# Altium schematic symbol library EReference-Schematic.SchLib: 84 symbols (part 2 of 3)
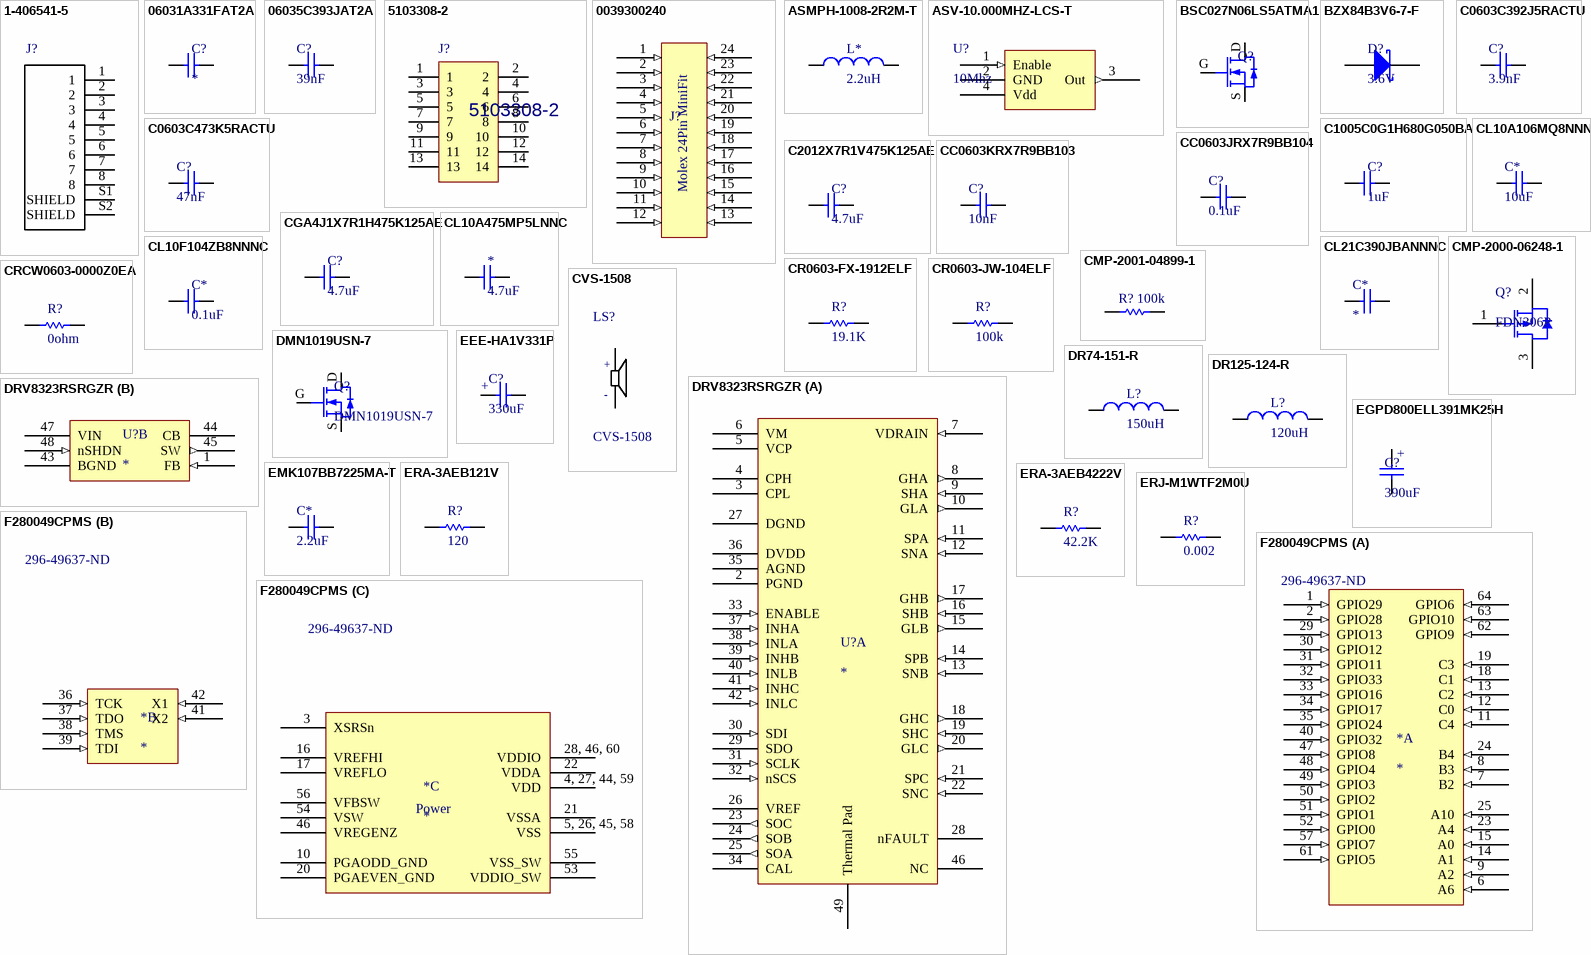
[diagram p3: symbols 1-406541-5 to F280049CPMS]

## EEE-HA1V331P
designator C?, comment 330uF
Cap Aluminum 330uF 35V 20% (10 X 10.2mm) SMD 250mA 2000h 105 C T/R; Manufacturer 1: Panasonic; Manufacturer Part Number 1: EEE-HA1V331P; Life (Hours): 1000Hour; Leakage Current: 115.5uA; Lead Diameter: 0.9mm; Supplier 1: Digi-Key; Stock 1: 52575; Pricing 1: 1=0.63000, 10=0.46300, 100=0.31770 (USD); RoHS: Yes; Mount: Surface Mount,PCB; Case/Package: Radial; Contact Plating: Tin; Min Operating Temperature: -40°C; Max Operating Temperature: 105°C; Capacitance: 330uF; Tolerance: 20%; Ripple Current: 250mA; Packaging: Tape and Reel; Package Quantity: 1; Voltage Rating: 35V; Voltage Rating (DC): 35V; Termination: SMD/SMT; Ripple Current (AC): 250mA; Voltage: 35V; Diameter: 10mm; Length: 10.5mm; Height: 10.2mm; Height - Seated (Max): 0.402inch; Width: 900um; Lead Pitch: 4.6mm; Radiation Hardening: No; Lead Free: Lead Free; REACH SVHC: No SVHC; ComponentLink1URL: https://datasheet.ciiva.com/11777/0900766b8102e3f9-11777478.pdf?src-supplier=RSComponents; ComponentLink1Description: https://datasheet.ciiva.com/11777/0900766b8102e3f9-11777478.pdf?src-supplier=RSComponents; ComponentLink2URL: https://datasheet.ciiva.com/2985/aba0000ce3-2985744.pdf?src-supplier=Avnet; ComponentLink2Description: https://datasheet.ciiva.com/2985/aba0000ce3-2985744.pdf?src-supplier=Avnet; ComponentLink3URL: https://datasheet.ciiva.com/3774/41677684s7619538n1386-3774069.pdf?src-supplier=Arrow; ComponentLink3Description: https://datasheet.ciiva.com/3774/41677684s7619538n1386-3774069.pdf?src-supplier=Arrow; ComponentLink4URL: https://datasheet.ciiva.com/14600/70256712-14600664.pdf?src-supplier=Allied+Electronics; ComponentLink4Description: https://datasheet.ciiva.com/14600/70256712-14600664.pdf?src-supplier=Allied+Electronics; ComponentLink5URL: https://datasheet.ciiva.com/46386/1446029-46386024.pdf?src-supplier=Element14; ComponentLink5Description: https://datasheet.ciiva.com/46386/1446029-46386024.pdf?src-supplier=Element14; ComponentLink6URL: https://datasheet.ciiva.com/43459/1446029-43459854.pdf?src-supplier=Farnell; ComponentLink6Description: https://datasheet.ciiva.com/43459/1446029-43459854.pdf?src-supplier=Farnell
footprint CAPAE116100X105N (Aluminum Electrolytic Capacitor, Body 10.00x10.00x10.50mm, IPC Medium Density)
pins: 1, 2
text: +

## EGPD800ELL391MK25H
designator C?, comment 390uF
CAP ALUM 390UF 20% 80V RADIAL; Manufacturer 1: United Chemi-Con; Manufacturer Part Number 1: EGPD800ELL391MK25H; ESR (Equivalent Series Resistance): 52mR; Ripple Current: 2.05A; Life (Hours): 3000Hour; Lead/Base Style: Straight; Supplier 1: Digi-Key; Stock 1: 4261; Pricing 1: 1=1.62000, 10=1.28300, 100=0.96200, 500=0.72684, 1000=0.64133, 2500=0.59857, 5000=0.58147 (USD); RoHS: Yes; Mount: Through Hole; Case/Package: Radial; Min Operating Temperature: -40°C; Max Operating Temperature: 135°C; Capacitance: 390uF; Package Quantity: 1000; Packaging: Bulk; Voltage Rating: 80V; Tolerance: 20%; Termination: Radial; Voltage Rating (DC): 80V; Diameter: 12.5mm; Length: 25mm; Height: 12.5mm; Lead Pitch: 0.197inch; Height - Seated (Max): 1.043inch; Width: 12.5mm; ComponentLink1URL: https://datasheet.ciiva.com/31836/76cat-db-al-cgieejppdfnamegpd-cgieejppdfnamegpd-31836902.pdf?src-supplier=Onlinecomponents.com; ComponentLink1Description: https://datasheet.ciiva.com/31836/76cat-db-al-cgieejppdfnamegpd-cgieejppdfnamegpd-31836902.pdf?src-supplier=Onlinecomponents.com
simulation model Model Name (Model Description)
footprint EGPD800ELL391MK25H
pins: 1, 2
text: +

## EMK107BB7225MA-T
designator C*, comment 2.2uF
CAP CER 2.2UF 16V X7R 0603; Manufacturer 1: Taiyo Yuden; Manufacturer Part Number 1: EMK107BB7225MA-T; Tolerance: 20%; Supplier 1: Digi-Key; Stock 1: 26291; Pricing 1: 1=0.34000, 10=0.23300, 100=0.13210, 500=0.09322, 1000=0.08157 (USD); RoHS: No; Mount: Surface Mount; Case/Package: 0603; Case Code (Imperial): 0603; Case Code (Metric): 1608; Min Operating Temperature: -55°C; Max Operating Temperature: 125°C; Packaging: Tape and Reel; Capacitance: 2.2uF; Voltage Rating: 16V; ComponentLink1URL: http://ds.yuden.co.jp/TYCOMPAS/ut/detail.do?productNo=EMK107BB7225MA-T&fileName=EMK107BB7225MA-T_SS&mode=specSheetDownload&src-supplier=Digi-Key; ComponentLink1Description: http://ds.yuden.co.jp/TYCOMPAS/ut/detail.do?productNo=EMK107BB7225MA-T&fileName=EMK107BB7225MA-T_SS&mode=specSheetDownload&src-supplier=Digi-Key; ComponentLink2URL: http://www.yuden.co.jp/productdata/catalog/mlcc06_e.pdf?src-supplier=Digi-Key; ComponentLink2Description: http://www.yuden.co.jp/productdata/catalog/mlcc06_e.pdf?src-supplier=Digi-Key
footprint CAPC1608X05L (Chip Capacitor, 2-Leads, Body 1.60x0.80mm, IPC High Density)
pins: 1, 2

## ERA-3AEB121V
designator R?, comment 120
RESISTOR, 0603, 120R, FULL REEL; Manufacturer: Panasonic; Manufacturer Part Number: ERA-3AEB121V; Tolerance: 0.1%; Temperature Coefficient: 25ppm/°C; Power Rating: 100mW; Voltage Rating: 75V; Supplier 1: Mouser; Stock 1: 7786; Pricing 1: 1=0.58, 10=0.231, 50=0.231, 100=0.15, 1000=0.077, 10000=0.04 (USD); Mount: Surface Mount; Case/Package: 0603; Number of Pins: 2; Contact Plating: Tin; Case Code (Metric): 1608; Case Code (Imperial): 0603; Min Operating Temperature: -55°C; Max Operating Temperature: 155°C; Resistance: 120R; Composition: Thin Film; Packaging: Tape and Reel; Package Quantity: 1; Number of Terminations: 2; Termination: SMD/SMT; Military Standard: Not; Max Power Dissipation: 100mW; Voltage Rating (DC): 75V; Features: Automotive AEC-Q200; Length: 1.6mm; Height: 0.45mm; Width: 0.8mm; Depth: 0.8mm; Radiation Hardening: No; REACH SVHC: No SVHC; Lead Free: Lead Free; ComponentLink1URL: http://www.farnell.com/datasheets/1776116.pdf; ComponentLink1Description: http://www.farnell.com/datasheets/1776116.pdf; ComponentLink2URL: https://www.distrelec.biz/Web/Downloads/_t/ds/ERA_eng_tds.pdf?mime=application%2Fpdf; ComponentLink2Description: https://www.distrelec.biz/Web/Downloads/_t/ds/ERA_eng_tds.pdf?mime=application%2Fpdf; ComponentLink3URL: http://www.farnell.com/datasheets/485442.pdf; ComponentLink3Description: http://www.farnell.com/datasheets/485442.pdf; ComponentLink4URL: http://www.farnell.com/datasheets/2052875.pdf; ComponentLink4Description: http://www.farnell.com/datasheets/2052875.pdf; ComponentLink5URL: http://www.farnell.com/datasheets/2059650.pdf; ComponentLink5Description: http://www.farnell.com/datasheets/2059650.pdf; ComponentLink6URL: http://industrial.panasonic.com/www-data/pdf/AOA0000/AOA0000CE26.pdf; ComponentLink6Description: http://industrial.panasonic.com/www-data/pdf/AOA0000/AOA0000CE26.pdf; ComponentLink7URL: http://uk.rs-online.com/webdocs/0fe2/0900766b80fe20f7.pdf; ComponentLink7Description: http://uk.rs-online.com/webdocs/0fe2/0900766b80fe20f7.pdf; ComponentLink8URL: https://produktinfo.conrad.com/datenblaetter/450000-474999/450380-da-01-en-WIDERSTAND_0603_ERA.pdf; ComponentLink8Description: https://produktinfo.conrad.com/datenblaetter/450000-474999/450380-da-01-en-WIDERSTAND_0603_ERA.pdf
footprint CAPC1608X05L (Chip Capacitor, 2-Leads, Body 1.60x0.80mm, IPC High Density)
simulation model Model Name (Model Description)
signal-integrity model Model Name (Model Description)
pins: 1, 2

## ERA-3AEB4222V
designator R?, comment 42.2K
Res Thin Film 0603 42.2K Ohm 0.1% 1/10W 25ppm/C Molded SMD SMD Punched Carrier T/R; Manufacturer 1: Panasonic; Manufacturer Part Number 1: ERA-3AEB4222V; Resistance: 42.2kR; Temperature Coefficient: 25ppm/°C; Voltage Rating: 75V; Power Rating: 100mW; Supplier 1: Digi-Key; Stock 1: 34459; Pricing 1: 1=0.35000, 10=0.30000, 100=0.11720, 1000=0.04906, 2500=0.04498 (USD); RoHS: Yes; Mount: Surface Mount; Case/Package: 0603; Number of Pins: 2; Contact Plating: Tin; Case Code (Metric): 1608; Case Code (Imperial): 0603; Min Operating Temperature: -55°C; Max Operating Temperature: 155°C; Tolerance: 0.1%; Composition: Thin Film,Metal Film; Packaging: Tape and Reel; Package Quantity: 5000; Number of Terminations: 2; Max Power Dissipation: 100mW; Voltage Rating (DC): 75V; Features: Automotive AEC-Q200; Length: 1.6mm; Height: 0.45mm; Width: 0.8mm; Depth: 0.8mm; Radiation Hardening: No; Lead Free: Lead Free; ComponentLink1URL: https://datasheet.ciiva.com/11810/0900766b80eb1d8c-11810162.pdf?src-supplier=RSComponents; ComponentLink1Description: https://datasheet.ciiva.com/11810/0900766b80eb1d8c-11810162.pdf?src-supplier=RSComponents; ComponentLink2URL: https://datasheet.ciiva.com/29184/452555-da-01-en-widerstand-0603-era-29184024.pdf?src-supplier=Conrad; ComponentLink2Description: https://datasheet.ciiva.com/29184/452555-da-01-en-widerstand-0603-era-29184024.pdf?src-supplier=Conrad; ComponentLink3URL: https://datasheet.ciiva.com/5987/485442-5987221.pdf?src-supplier=Farnell; ComponentLink3Description: https://datasheet.ciiva.com/5987/485442-5987221.pdf?src-supplier=Farnell; ComponentLink4URL: https://datasheet.ciiva.com/7870/485442-7870590.pdf?src-supplier=Element14; ComponentLink4Description: https://datasheet.ciiva.com/7870/485442-7870590.pdf?src-supplier=Element14; ComponentLink5URL: https://datasheet.ciiva.com/7870/485442-7870591.pdf?src-supplier=Element14; ComponentLink5Description: https://datasheet.ciiva.com/7870/485442-7870591.pdf?src-supplier=Element14; ComponentLink6URL: https://datasheet.ciiva.com/9189/aoa0000ce26-9189711.pdf?src-supplier=Avnet; ComponentLink6Description: https://datasheet.ciiva.com/9189/aoa0000ce26-9189711.pdf?src-supplier=Avnet
footprint CAPC1608X05L (Chip Capacitor, 2-Leads, Body 1.60x0.80mm, IPC High Density)
pins: 1, 2

## ERJ-M1WTF2M0U
designator R?, comment 0.002
RESISTOR, 2512, 0R002, 1%, 1W; Manufacturer: Panasonic; Manufacturer Part Number: ERJ-M1WTF2M0U; Resistance: 2mR; Temperature Coefficient: 100ppm/°C; Supplier 1: Digi-Key; Stock 1: 103429; Pricing 1: 1=0.57, 10=0.479, 25=0.4104, 50=0.3692, 100=0.3214, 250=0.28716, 500=0.23248, 1000=0.18803 (USD); Mount: Surface Mount; Case/Package: 2512; Number of Pins: 2; Contact Plating: Tin; Case Code (Imperial): 2512; Case Code (Metric): 6432; Min Operating Temperature: -55°C; Max Operating Temperature: 170°C; Tolerance: 1%; Power Rating: 1W; Composition: Metal Element,Metal Strip,Thick Film; Packaging: Tape and Reel; Package Quantity: 1; Termination: SMD/SMT; Number of Terminations: 2; Military Standard: Not; Max Power Dissipation: 1W; Length: 6.4mm; Height: 0.8mm; Width: 3.2mm; Depth: 3.2mm; Radiation Hardening: No; REACH SVHC: No SVHC; Lead Free: Lead Free; ComponentLink1URL: http://uk.rs-online.com/webdocs/0bef/0900766b80befc3b.pdf; ComponentLink1Description: http://uk.rs-online.com/webdocs/0bef/0900766b80befc3b.pdf; ComponentLink2URL: http://www.farnell.com/datasheets/39800.pdf; ComponentLink2Description: http://www.farnell.com/datasheets/39800.pdf; ComponentLink3URL: http://www.farnell.com/datasheets/1678791.pdf; ComponentLink3Description: http://www.farnell.com/datasheets/1678791.pdf; ComponentLink4URL: http://www.mouser.com/ds/2/315/AOA0000CE7-60136.pdf; ComponentLink4Description: http://www.mouser.com/ds/2/315/AOA0000CE7-60136.pdf; ComponentLink5URL: https://www.alliedelec.com/m/d/7be8c991d0d271c40a5d4721d31e0fd6.pdf; ComponentLink5Description: https://www.alliedelec.com/m/d/7be8c991d0d271c40a5d4721d31e0fd6.pdf; ComponentLink6URL: https://industrial.panasonic.com/cdbs/www-data/pdf/RDN0000/AOA0000C90.pdf; ComponentLink6Description: https://industrial.panasonic.com/cdbs/www-data/pdf/RDN0000/AOA0000C90.pdf; ComponentLink7URL: http://industrial.panasonic.com/www-data/pdf/AOA0000/AOA0000CE7.pdf; ComponentLink7Description: http://industrial.panasonic.com/www-data/pdf/AOA0000/AOA0000CE7.pdf; ComponentLink8URL: https://www.alliedelec.com/m/d/0d7a6c47246abe4d76f460def559c8b0.pdf; ComponentLink8Description: https://www.alliedelec.com/m/d/0d7a6c47246abe4d76f460def559c8b0.pdf
simulation model Model Name (Model Description)
signal-integrity model Model Name (Model Description)
footprint RESC6532X08L (Chip Resistor, 2-Leads, Body 6.50x3.20mm, IPC High Density)
pins: 1, 2

## F280049CPMS
designator *  Supplier Part Number 1: 296-49637-ND
Manufacturer: Texas Instruments; Manufacturer Part Number: F280049CPMS; Number of UART Channels: 2; Supplier 1: Digi-Key; Stock 1: 1131; Pricing 1: 1=12.66, 10=11.634, 25=11.152, 160=9.82563, 640=8.74059, 1120=8.01724 (USD); Min Operating Temperature: -40°C; Max Operating Temperature: 125°C; ComponentLink1Description: Digikey; ComponentLink1URL: https://www.digikey.ca/product-detail/en/texas-instruments/F280049CPMS/296-49637-ND/8322725; ComponentLink2Description: Datasheet; ComponentLink2URL: http://www.ti.com/lit/ds/symlink/tms320f280049c.pdf; ComponentLink3Description: Ti Store Page; ComponentLink3URL: http://www.ti.com/product/tms320f280049c
footprint TSQFP50P1200X1200X145-64N (TSQFP, 64-Leads, Body 10.00x10.00mm, Pitch 0.50mm, IPC Medium Density)
part A pins: 1 GPIO29 (in), 2 GPIO28 (in), 6 A6 (in), 7 B2 (in), 8 B3 (in), 9 A2 (in), 11 C4 (in), 12 C0 (in), 13 C2 (in), 14 A1 (in), 15 A0 (in), 18 C1 (in), 19 C3 (in), 23 A4 (in), 24 B4 (in), 25 A10 (in), 29 GPIO13 (in), 30 GPIO12 (in), 31 GPIO11 (in), 32 GPIO33 (in), 33 GPIO16 (in), 34 GPIO17 (in), 35 GPIO24 (in), 40 GPIO32 (in), 47 GPIO8 (in), 48 GPIO4 (in), 49 GPIO3 (in), 50 GPIO2 (in), 51 GPIO1 (in), 52 GPIO0 (in), 57 GPIO7 (in), 61 GPIO5 (in), 62 GPIO9 (in), 63 GPIO10 (in), 64 GPIO6 (in)
part B pins: 36 TCK (in), 37 TDO (in), 38 TMS (in), 39 TDI (in), 41 X2 (in), 42 X1 (in)
part C pins: 3 XSRSn (power), 4, 27, 44, 59 VDD (power), 5, 26, 45, 58 VSS (power), 10 PGAODD_GND (power), 16 VREFHI (power), 17 VREFLO (power), 20 PGAEVEN_GND (power), 21 VSSA (power), 22 VDDA (power), 28, 46, 60 VDDIO (power), 46 VREGENZ (power), 53 VDDIO_SW (power), 54 VSW (power), 55 VSS_SW (power), 56 VFBSW (power)
part C text: Power

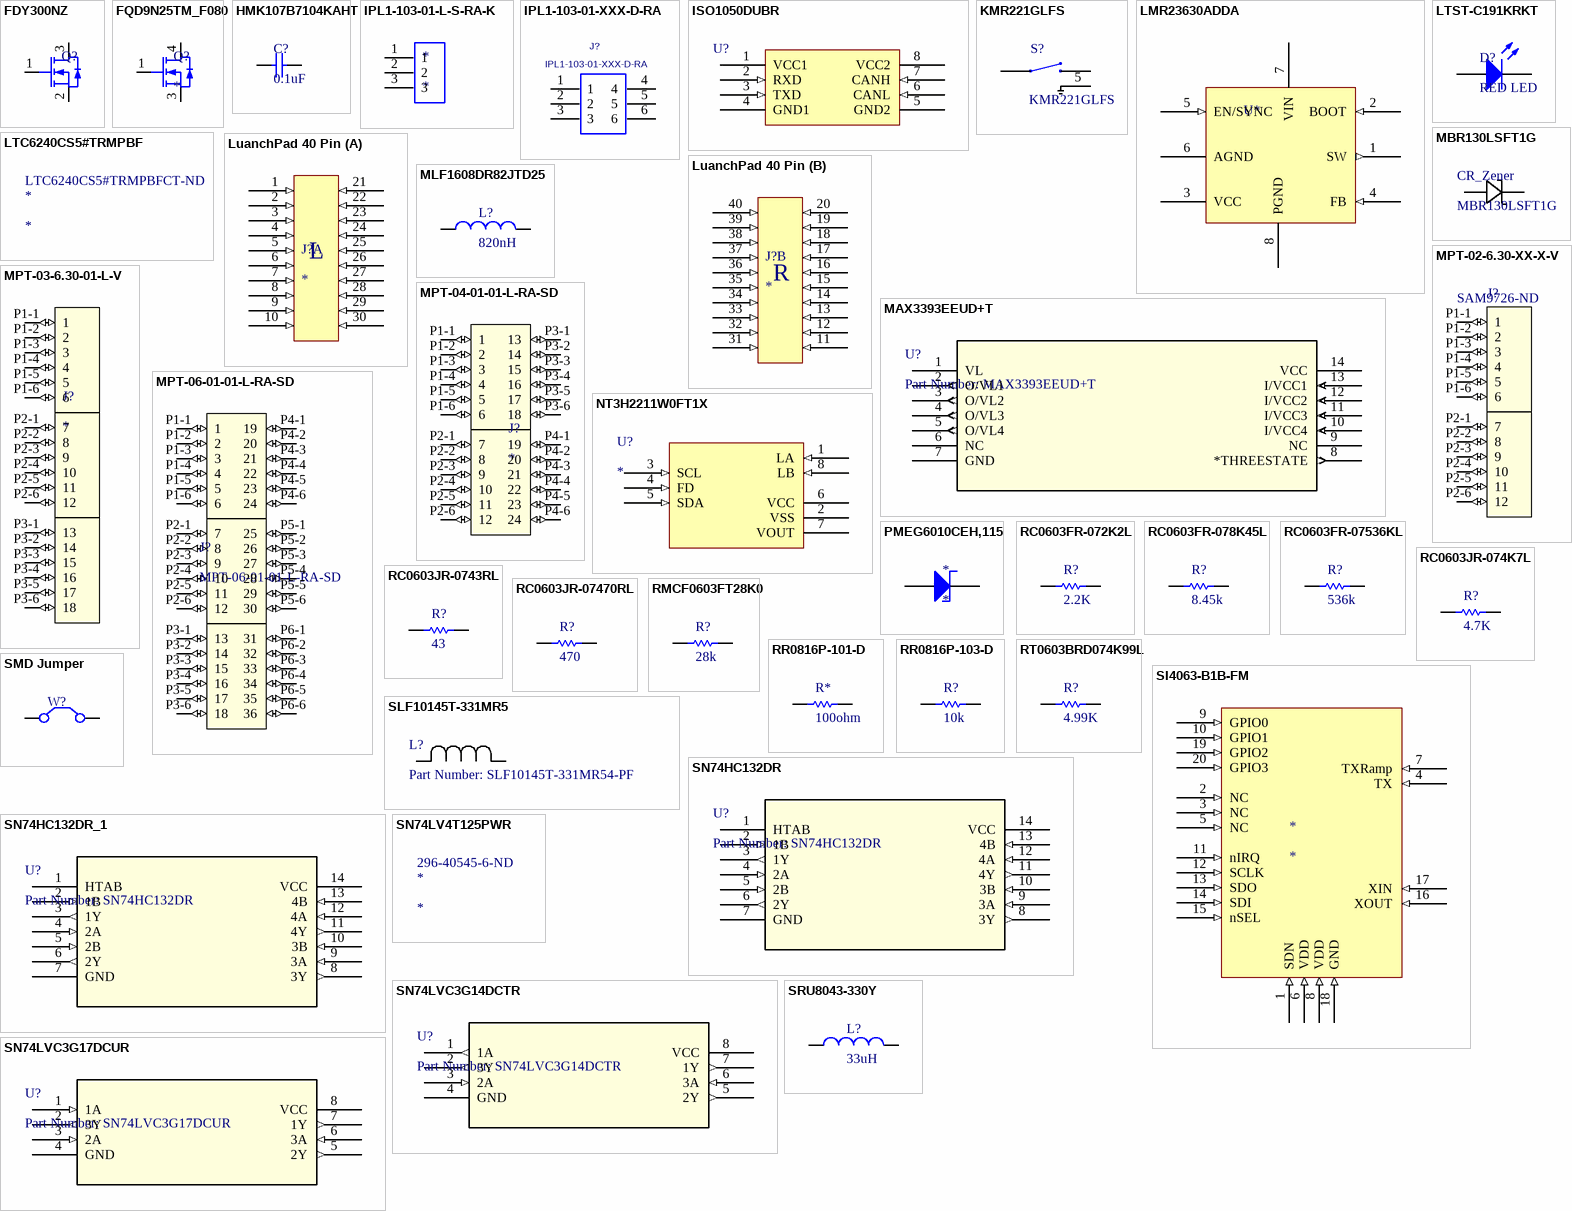
[diagram p1: symbols FDY300NZ to SRU8043-330Y]

## FDY300NZ
designator Q?
MOSFET N-CH 20V 600MA SC89; Manufacturer: ON Semiconductor / Fairchild; Manufacturer Part Number: FDY300NZ; Rds On Max: 700mR; Input Capacitance: 60pF; Rise Time: 8ns; Number of Elements: 1; Max Power Dissipation: 625mW; Nominal Vgs: 1V; Drain to Source Resistance: 240mR; Turn-On Delay Time: 6ns; Element Configuration: Single; Gate to Source Voltage (Vgs): 12V; Supplier 1: Digi-Key; RoHS: Yes; Stock 1: 1524; Pricing 1: 1 = 0.54000, 10 = 0.45500, 100 = 0.34130, 500 = 0.25026, 1000 = 0.19338 (USD); Mount: Surface Mount; Case/Package: SC; Number of Pins: 3; Weight: 0.03g; Contact Plating: Matte,Tin; Min Operating Temperature: -55°C; Max Operating Temperature: 150°C; Package Quantity: 1; Packaging: Tape and Reel; Dual Supply Voltage: 20V; Drain to Source Voltage (Vdss): 20V; Continuous Drain Current (ID): 600mA; Drain to Source Breakdown Voltage: 20V; Fall Time: 8ns; Power Dissipation: 625mW; Turn-Off Delay Time: 8ns; Threshold Voltage: 1V; Termination: SMD/SMT; On-State Resistance: 700MR; Length: 1.7mm; Height: 0.78mm; Width: 0.98mm; Radiation Hardening: No; REACH SVHC: No SVHC; Lead Free: Lead Free; ComponentLink1URL: https://www.fairchildsemi.com/datasheets/FD/FDY300NZ.pdf; ComponentLink1Description: https://www.fairchildsemi.com/datasheets/FD/FDY300NZ.pdf; ComponentLink2URL: http://www.farnell.com/datasheets/298793.pdf; ComponentLink2Description: http://www.farnell.com/datasheets/298793.pdf; ComponentLink3URL: http://www.fairchildsemi.com/ds/FD/FDY300NZ.pdf; ComponentLink3Description: http://www.fairchildsemi.com/ds/FD/FDY300NZ.pdf; ComponentLink4URL: http://www.mouser.com/ds/2/149/FDY300NZ-48869.pdf; ComponentLink4Description: http://www.mouser.com/ds/2/149/FDY300NZ-48869.pdf; ComponentLink5URL: https://www.verical.com/server-webapp/html/getDatasheet?partID=60167; ComponentLink5Description: https://www.verical.com/server-webapp/html/getDatasheet?partID=60167
footprint SOTFL50P160X78-3N (SOTFL, 3-Leads, Body 1.60x1.60mm, Pitch 0.50mm, IPC Medium Density)
pins: 1 G, 2 S, 3 D

## FQD9N25TM_F080
designator Q?
Trans MOSFET N-CH 250V 7.4A 3-Pin(2+Tab) DPAK T/R; Manufacturer: ON Semiconductor / Fairchild; Manufacturer Part Number: FQD9N25TM_F080; Rise Time: 105ns; Fall Time: 45ns; Turn-Off Delay Time: 25ns; Turn-On Delay Time: 13ns; Gate to Source Voltage (Vgs): 30V; Rds On Max: 420mR; Input Capacitance: 700pF; Max Power Dissipation: 2.5W; Element Configuration: Single; Supplier 1: Digi-Key; Stock 1: 2322; Pricing 1: 1=1.77, 10=1.563, 100=1.2355, 500=0.95816, 1000=0.75644 (USD); Mount: Surface Mount; Case/Package: TO-252-3; Number of Pins: 3; Weight: 0.26037g; Min Operating Temperature: -55°C; Max Operating Temperature: 150°C; Continuous Drain Current (ID): 7.4A; Package Quantity: 2500; Packaging: Tape and Reel; Drain to Source Voltage (Vdss): 250V; Drain to Source Breakdown Voltage: 250V; Power Dissipation: 2.5W; Drain to Source Resistance: 420mR; Radiation Hardening: No; ComponentLink1URL: https://www.fairchildsemi.com/tape-and-reel-drawings/PKG-TO252A03.pdf; ComponentLink1Description: https://www.fairchildsemi.com/tape-and-reel-drawings/PKG-TO252A03.pdf; ComponentLink2URL: https://www.fairchildsemi.com/datasheets/FQ/FQD9N25.pdf; ComponentLink2Description: https://www.fairchildsemi.com/datasheets/FQ/FQD9N25.pdf
footprint DPAK229P991X239-3N (D-PAK, 3-Pads, Body 6.21x6.73mm (max), IPC Medium Density)
pins: 1 G, 3 S, 4 D

## HMK107B7104KAHT
designator C?, comment 0.1uF
CAP ,MIDHIGH VOL,0603,100V,X7R,0.1UF 10% ,T&R; Manufacturer 1: Taiyo Yuden; Manufacturer Part Number 1: HMK107B7104KAHT; Capacitance: 100nF; Supplier 1: Digi-Key; Stock 1: 3336; Pricing 1: 1=0.21000, 10=0.14900, 100=0.06990, 500=0.04898, 1000=0.04055 (USD); RoHS: Yes; Mount: Surface Mount; Case/Package: 0603; Min Operating Temperature: -55°C; Max Operating Temperature: 125°C; Packaging: Tape and Reel; Voltage Rating: 100V; Tolerance: 10%; Length: 0.063inch; Width: 0.031inch; Thickness: 0.035inch; Ratings: AEC-Q200; ComponentLink1URL: http://ds.yuden.co.jp/TYCOMPAS/ut/detail.do?productNo=HMK107B7104KAHT&fileName=HMK107B7104KAHT_SS&mode=specSheetDownload&src-supplier=Digi-Key; ComponentLink1Description: http://ds.yuden.co.jp/TYCOMPAS/ut/detail.do?productNo=HMK107B7104KAHT&fileName=HMK107B7104KAHT_SS&mode=specSheetDownload&src-supplier=Digi-Key; ComponentLink2URL: http://www.yuden.co.jp/productdata/catalog/en/mlcc06_hq_e.pdf?src-supplier=Digi-Key; ComponentLink2Description: http://www.yuden.co.jp/productdata/catalog/en/mlcc06_hq_e.pdf?src-supplier=Digi-Key; ComponentLink3URL: https://ds.yuden.co.jp/TYCOMPAS/ut/detail?pn=HMK107B7104KAHT &amp;u=M&src-supplier=Digi-Key; ComponentLink3Description: https://ds.yuden.co.jp/TYCOMPAS/ut/detail?pn=HMK107B7104KAHT &amp;u=M&src-supplier=Digi-Key
footprint CAPC1608X05L (Chip Capacitor, 2-Leads, Body 1.60x0.80mm, IPC High Density)
pins: 1, 2

## IPL1-103-01-L-S-RA-K
designator *
CONN HEADER R/A 3POS 2.54MM; Manufacturer 1: Samtec; Manufacturer Part Number 1: IPL1-103-01-L-S-RA-K; Max Current Rating: 7.4A; Number of Contacts: 3; Number of Ports: 1; Max Voltage Rating (AC): 675V; Gender: Male; Supplier 1: Digi-Key; Stock 1: 209; Pricing 1: 1=2.59000, 10=2.34700, 100=2.01180, 500=1.67650, 1000=1.43700, 5000=1.27414 (USD); RoHS: Yes; Mount: Through Hole; Contact Material: Bronze; Contact Plating: Gold; Number of Terminals: 3; Housing Material: Polymer; Min Operating Temperature: -55°C; Max Operating Temperature: 125°C; Termination: Solder; Orientation: Right Angle; Packaging: Bulk; Length: 9.14mm; Pitch: 2.54mm; Depth: 9.65mm; Radiation Hardening: No; ComponentLink1URL: http://www.farnell.com/datasheets/2607185.pdf?src-supplier=Farnell; ComponentLink1Description: http://www.farnell.com/datasheets/2607185.pdf?src-supplier=Farnell; ComponentLink2URL: http://components.arrow.com/part/dataview/0323_03818136?src-supplier=Arrow+Europe; ComponentLink2Description: http://components.arrow.com/part/dataview/0323_03818136?src-supplier=Arrow+Europe; ComponentLink3URL: http://www.samtec.com/documents/webfiles/pdf/ipl1.pdf?src-supplier=Avnet+Europe; ComponentLink3Description: http://www.samtec.com/documents/webfiles/pdf/ipl1.pdf?src-supplier=Avnet+Europe; ComponentLink4URL: http://www.samtec.com/documents/webfiles/pdf/ipl1.pdf?src-supplier=Avnet; ComponentLink4Description: http://www.samtec.com/documents/webfiles/pdf/ipl1.pdf?src-supplier=Avnet; ComponentLink5URL: http://www.farnell.com/datasheets/2607185.pdf?src-supplier=Newark; ComponentLink5Description: http://www.farnell.com/datasheets/2607185.pdf?src-supplier=Newark; ComponentLink6URL: http://suddendocs.samtec.com/prints/ipl1-1xx-xx-xxx-s-xx-x-xx-mkt.pdf?src-supplier=Digi-Key; ComponentLink6Description: http://suddendocs.samtec.com/prints/ipl1-1xx-xx-xxx-s-xx-x-xx-mkt.pdf?src-supplier=Digi-Key
footprint IPL1-103-01-XXX-S-RA
pins: 1, 2, 3

## IPL1-103-01-XXX-D-RA
designator J?
Terminal Assembly, Double Row, Right Angle, Thru-Hole, 0.100" x 0.100" Pitch, 6Pins; MANUFACTURER: SAMTEC; CREATED: July 16, 2014 - Wendy Xin; PCB DECAL: IPL1-103-01-XXX-D-RA
footprint IPL1-103-01-XXX-D-RA
pins: 1, 2, 3, 4, 5, 6

## ISO1050DUBR
designator U?
TEXAS INSTRUMENTS         ISO1050DUBR             CAN Bus, Transceiver, CAN, 1, 1, 3 V, 5.5 V, SOP; Min Supply Voltage: 3V; Max Supply Voltage: 5.5V; Data Rate: 1Mbps; Number of Drivers: 1; Operating Supply Voltage: 5V; Propagation Delay: 74ns; Operating Supply Current: 52mA; Max Power Dissipation: 200mW; Working Voltage: 1.2V; Polarity: Unidirectional; Output Current: 70mA; Supplier 1: Digi-Key; Manufacturer: Texas Instruments; Manufacturer Part Number: ISO1050DUBR; Stock 1: 98889; Pricing 1: 1=4.56, 10=4.099, 100=3.3582 (USD); Case/Package: SOP; Number of Pins: 8; Weight: 0.030018oz; Contact Plating: Gold; Min Operating Temperature: -55°C; Max Operating Temperature: 105°C; Package Quantity: 1; Packaging: Tape and Reel; Number of Channels: 1; Number of Transceivers: 1; Number of Transmit Buffers: 1; Number of Receive Buffers: 1; Output Voltage: 5V; Termination: SMD/SMT; Radiation Hardening: No; Lead Free: Lead Free; REACH SVHC: No SVHC; ComponentLink1URL: http://www.ti.com/lit/ds/symlink/iso1050.pdf; ComponentLink1Description: http://www.ti.com/lit/ds/symlink/iso1050.pdf; ComponentLink2URL: http://www.farnell.com/datasheets/1972904.pdf; ComponentLink2Description: http://www.farnell.com/datasheets/1972904.pdf; ComponentLink3URL: https://www.verical.com/server-webapp/html/getDatasheet?partID=330373; ComponentLink3Description: https://www.verical.com/server-webapp/html/getDatasheet?partID=330373; ComponentLink4URL: http://sg.element14.com/webapp/wcs/stores/servlet/OpenCAD?catalogId=15001&langId=65&id=800000158048&storeId=10191&returnURL=http%3A%2F%2Fsg.element14.com%2Ftexas-instruments%2Fiso1050dubr%2Fic-can-transceiver-isolated-5v%2Fdp%2F1755712; ComponentLink4Description: http://sg.element14.com/webapp/wcs/stores/servlet/OpenCAD?catalogId=15001&langId=65&id=800000158048&storeId=10191&returnURL=http%3A%2F%2Fsg.element14.com%2Ftexas-instruments%2Fiso1050dubr%2Fic-can-transceiver-isolated-5v%2Fdp%2F1755712; ComponentLink5URL: http://www.produktinfo.conrad.com/datenblaetter/1100000-1199999/001187118-da-01-en-IC_TXRX_CAN_5V_ISO_ISO1050DUBR_SOP_8_TID.pdf; ComponentLink5Description: http://www.produktinfo.conrad.com/datenblaetter/1100000-1199999/001187118-da-01-en-IC_TXRX_CAN_5V_ISO_ISO1050DUBR_SOP_8_TID.pdf; ComponentLink6URL: http://datasheet.iiic.cc/texas_instruments/ISO1050DUBR.pdf; ComponentLink6Description: http://datasheet.iiic.cc/texas_instruments/ISO1050DUBR.pdf
footprint SOP254P1040X485-8N (SOP, 8-Leads, Body 9.15x6.62mm, Pitch 2.54mm, IPC Medium Density)
pins: 1 VCC1 (power), 2 RXD (in), 3 TXD (in), 4 GND1 (power), 5 GND2 (power), 6 CANL (in), 7 CANH (in), 8 VCC2 (power)

## KMR221GLFS
designator S?
Switch Tactile N.O. SPST Button Gull Wing 0.05A 32VDC 1VA 200000Cycles 2N SMD Automotive T/R; MF: C&K; Price: None; Package: None; SnapEDA_Link: https://www.snapeda.com/parts/KMR221GLFS/C%26K/view-part/?ref=snap; MP: KMR221GLFS; Availability: Unavailable; Value: *
footprint SW_KMR221GLFS
pins: 1,2 1, 3,4 3, 5

## LMR23630ADDA
designator U*
IC REG BUCK ADJ 3A SYNC 8SOPWRPD; Manufacturer 1: Texas Instruments; Manufacturer Part Number 1: LMR23630ADDA; Quiescent Current: 75uA; Min Input Voltage: 4.5V; Max Input Voltage: 36V; Number of Outputs: 1; Min Output Voltage: 1V; Max Output Voltage: 28V; Switching Frequency: 2.2MHz; Supplier 1: Digi-Key; Stock 1: 2271; Pricing 1: 1=4.25000, 10=3.81300, 25=3.60440, 100=3.12390, 500=2.65932, 1000=2.24280, 2500=2.13066 (USD); RoHS: No; Number of Pins: 8; Min Operating Temperature: -40°C; Max Operating Temperature: 125°C; Output Current: 3A; Output Voltage: 1V; Lead Free: Lead Free; REACH SVHC: No SVHC; ComponentLink1URL: http://www.ti.com/general/docs/lit/getliterature.tsp?genericPartNumber=LMR23630&fileType=pdf&src-supplier=Farnell; ComponentLink1Description: http://www.ti.com/general/docs/lit/getliterature.tsp?genericPartNumber=LMR23630&fileType=pdf&src-supplier=Farnell; ComponentLink2URL: http://www.ti.com/lit/ds/symlink/lmr23630.pdf?src-supplier=Digi-Key; ComponentLink2Description: http://www.ti.com/lit/ds/symlink/lmr23630.pdf?src-supplier=Digi-Key; ComponentLink3URL: http://www.farnell.com/datasheets/2113491.pdf?src-supplier=Element14; ComponentLink3Description: http://www.farnell.com/datasheets/2113491.pdf?src-supplier=Element14
footprint SOP127P600X170_HS-9N (SOP, 8-Leads, Body 4.90x3.90mm, Pitch 1.27mm, Thermal Pad 3.10x2.40mm, IPC Medium Density)
pins: 1 SW (out), 2 BOOT (in), 3 VCC (power), 4 FB (in), 5 EN/SYNC (in), 6 AGND (power), 7 VIN (power), 8 PGND (power)

## LTC6240CS5#TRMPBF
designator *  Supplier Part Number 1: LTC6240CS5#TRMPBFCT-ND
IC OPAMP GP 18MHZ RRO TSOT23-5; Manufacturer 1: Analog Devices / Linear Technology; Manufacturer Part Number 1: LTC6240CS5#TRMPBF; Common Mode Rejection Ratio: 80dB; Slew Rate: 10V/µs; Max Supply Voltage: 6V; Min Supply Voltage: 2.8V; Number of Circuits: 1; Input Bias Current: 0.2pA; Input Offset Voltage (Vos): 40uV; Voltage Gain: 124.08dB; Operating Supply Current: 2mA; Output Current per Channel: 30mA; Supplier 1: Digi-Key; Stock 1: 1429; Pricing 1: 1=2.10000, 25=1.39520, 100=1.15360 (USD); RoHS: Yes; Case/Package: SOT-23-5; Number of Pins: 5; Min Operating Temperature: 0°C; Max Operating Temperature: 70°C; Unity Gain Bandwidth Product: 18MHz; Nominal Gain Bandwidth Product: 18MHz; Number of Elements: 1; Power Supply Rejection Ratio (PSRR): 80dB; Number of Channels: 1; Package Quantity: 1; Packaging: Tape and Reel; Gain Bandwidth Product: 18MHz; ComponentLink1URL: http://components.arrow.com/part/dataview/46459625S8855930N7433?src-supplier=Arrow; ComponentLink1Description: http://components.arrow.com/part/dataview/46459625S8855930N7433?src-supplier=Arrow; ComponentLink2URL: http://www.farnell.com/datasheets/1575881.pdf?src-supplier=Farnell; ComponentLink2Description: http://www.farnell.com/datasheets/1575881.pdf?src-supplier=Farnell; ComponentLink3URL: http://components.arrow.com/part/dataview/1762_00091865?src-supplier=Arrow+Europe; ComponentLink3Description: http://components.arrow.com/part/dataview/1762_00091865?src-supplier=Arrow+Europe; ComponentLink4URL: http://www.produktinfo.conrad.com/datenblaetter/1200000-1299999/001255364-da-01-en-IC_OP_AM_LTC6240CS5_TRMPBF_TSOT_23_5_LTC.pdf?src-supplier=Conrad; ComponentLink4Description: http://www.produktinfo.conrad.com/datenblaetter/1200000-1299999/001255364-da-01-en-IC_OP_AM_LTC6240CS5_TRMPBF_TSOT_23_5_LTC.pdf?src-supplier=Conrad; ComponentLink5URL: http://www.linear.com/docs/44087?src-supplier=Digi-Key; ComponentLink5Description: http://www.linear.com/docs/44087?src-supplier=Digi-Key
footprint LT-S5-5-TSOT-23_L (SOT23, 5-Leads, Body 2.90x1.63mm, Pitch 0.95mm, IPC High Density)

## LTST-C191KRKT
designator D?, comment RED LED
LED RED CLEAR 0603 SMD; Manufacturer: Vishay Lite-On; Manufacturer Part Number: LTST-C191KRKT; Lens Colour: Colorless; Power Rating: 75mW; Luminous Intensity: 54mcd; Viewing Angle: 130°; Forward Voltage: 2V; Lens Style: Clear,Colorless,Diffused,Rectangular; Forward Current: 30mA; Dominant Wavelength: 631nm; Test Current: 20mA; Number of Elements: 1; Wavelength: 639nm; Reverse Voltage: 5V; Current: 2A; Supplier 1: Future Electronics; Stock 1: 1170; Pricing 1: 1=0.059, 250=0.048, 750=0.046, 1500=0.045, 2500=0.043 (USD); Mount: Surface Mount; Case/Package: 0603; Number of Pins: 2; Colour: Red; Case Code (Metric): 1608; Case Code (Imperial): 0603; Min Operating Temperature: -55°C; Max Operating Temperature: 85°C; Packaging: Tape and Reel; Package Quantity: 1; Illumination Colour: Red; Lens Transparency: Clear; Power Dissipation: 75mW; Number of LEDs: 1; Voltage: 2V; Length: 1.6mm; Height: 0.55mm; Width: 0.8mm; Depth: 0.8mm; Radiation Hardening: No; Lead Free: Lead Free; ComponentLink1URL: http://optoelectronics.liteon.com/upload/download/DS22-2000-223/LTST-C191KRKT.PDF; ComponentLink1Description: http://optoelectronics.liteon.com/upload/download/DS22-2000-223/LTST-C191KRKT.PDF; ComponentLink2URL: http://www1.futureelectronics.com/doc/LITE-ON/LTST-C191KRKT.pdf; ComponentLink2Description: http://www1.futureelectronics.com/doc/LITE-ON/LTST-C191KRKT.pdf; ComponentLink3URL: https://www.verical.com/server-webapp/html/getDatasheet?partID=141922; ComponentLink3Description: https://www.verical.com/server-webapp/html/getDatasheet?partID=141922; ComponentLink4URL: http://www.mouser.com/ds/2/239/LTST-C191KRKT-1140668.pdf; ComponentLink4Description: http://www.mouser.com/ds/2/239/LTST-C191KRKT-1140668.pdf
footprint CAPC1608X05L - Polarized (Chip Capacitor, 2-Leads, Body 1.60x0.80mm, IPC High Density)
pins: 1 A, 2 K

## LuanchPad 40 Pin
designator J?
Designed to fit a TI luanchpad board or expansion board
footprint TI LuanchPad (Fits ti LuanchPad)
part A pins: 1 (in), 2 (in), 3 (in), 4 (in), 5 (in), 6 (in), 7 (in), 8 (in), 9 (in), 10 (in), 21 (in), 22 (in), 23 (in), 24 (in), 25 (in), 26 (in), 27 (in), 28 (in), 29 (in), 30 (in)
part B pins: 11 (in), 12 (in), 13 (in), 14 (in), 15 (in), 16 (in), 17 (in), 18 (in), 19 (in), 20 (in), 31 (in), 32 (in), 33 (in), 34 (in), 35 (in), 36 (in), 37 (in), 38 (in), 39 (in), 40 (in)
part A text: L
part B text: R

## MAX3393EEUD+T
designator U?, comment Part Number: MAX3393EEUD+T
Level Shifter; Vendor: Maxim Integrated Products; Built_By: EMA_UL_Team; Manufacturer_Part_Number: MAX3393EEUD+T; Copyright: Copyright (C) 2018 Accelerated Designs. All rights reserved; RefDes: RefDes; Type: DEV; Value: Value
footprint 21-0066J_14
pins: 1 VL (power), 2 O/VL1 (out), 3 O/VL2 (out), 4 O/VL3 (out), 5 O/VL4 (out), 6 NC, 7 GND (power), 8 *THREESTATE (out), 9 NC, 10 I/VCC4 (in), 11 I/VCC3 (in), 12 I/VCC2 (in), 13 I/VCC1 (in), 14 VCC (power)

## MBR130LSFT1G
designator CR_Zener
Zener diode, rectifier 30v 1.1A; Vendor: ON Semiconductor; Built_By: EMA_Anthony; Copyright: Copyright (C) 2016 Accelerated Designs. All rights reserved; Manufacturer_Part_Number: MBR130LSFT1G; RefDes: RefDes; Type: DEV; Value: Value
footprint DIODE_SOD123LF_2
pins: 1, 2

## MLF1608DR82JTD25
designator L?, comment 820nH
FIXED IND 820NH 70MA 1.4 OHM SMD; Manufacturer: TDK; Manufacturer Part Number: MLF1608DR82JTD25; Core Material: Ferrite; Tolerance: 5%; Shielding: Shielded; DC Resistance (DCR): 1.4R; Self Resonant Frequency: 130MHz; Test Frequency: 25MHz; Max DC Current: 30mA; Q Factor: 35; Supplier 1: Digi-Key; RoHS: Yes; Stock 1: 35194; Pricing 1: 1 = 0.33000, 10 = 0.29000, 100 = 0.19920, 500 = 0.17026, 1000 = 0.13041 (USD); Mount: Surface Mount; Case/Package: 0603; Weight: 0.000141oz; Case Code (Metric): 1608; Case Code (Imperial): 0603; Min Operating Temperature: -55°C; Max Operating Temperature: 125°C; Package Quantity: 4000; Packaging: Tape and Reel; Current Rating: 70mA; Inductance: 820nh; Termination: SMD/SMT; Length: 0.063inch; Height: 0.8mm; Width: 0.8mm; Height - Seated (Max): 0.037inch; Ratings: AEC-Q200; Lead Free: Lead Free; ComponentLink1URL: https://product.tdk.com/info/en/catalog/datasheets/inductor_automotive_standard_mlf1608_en.pdf; ComponentLink1Description: https://product.tdk.com/info/en/catalog/datasheets/inductor_automotive_standard_mlf1608_en.pdf
footprint CAPC1608X05L (Chip Capacitor, 2-Leads, Body 1.60x0.80mm, IPC High Density)
simulation model Model Name (Model Description)
signal-integrity model Model Name (Model Description)
pins: 1, 2

## MPT-02-6.30-XX-X-V
designator J?  Supplier Part Number 1: SAM9726-ND  (hidden comment: MPT-02-6.30-XX-X-V)
Manufacturer 1: Samtec; Manufacturer Part Number 1: MPT-02-6.30-01-L-V; Number of Contacts: 2; Gender: Male; Current Rating: 41.7A; Voltage Rating: 848V; Number of Ports: 1; Pitch: 5mm; Value: *; Supplier 1: Digi-Key; Stock 1: 216; Pricing 1: 1=3.98000, 60=3.33900, 120=3.18000, 540=2.70300, 1020=2.30550 (USD); RoHS: Yes; Mount: Through Hole; Contact Material: Copper Alloy,Copper; Contact Plating: Gold; Number of Terminals: 12; Housing Material: Polymer; Min Operating Temperature: -55°C; Max Operating Temperature: 125°C; Termination: Solder; Orientation: Straight; Packaging: Bulk; Number of Rows: 1; Length: 17.55mm; Lead Pitch: 5mm; Depth: 12.45mm; Radiation Hardening: No; REACH SVHC: No SVHC; ComponentLink1URL: https://datasheet.ciiva.com/25617/0900766b81157ee1-25617155.pdf?src-supplier=RSComponents; ComponentLink1Description: https://datasheet.ciiva.com/25617/0900766b81157ee1-25617155.pdf?src-supplier=RSComponents; ComponentLink2URL: https://datasheet.ciiva.com/5841/452722-5841992.pdf?src-supplier=Farnell; ComponentLink2Description: https://datasheet.ciiva.com/5841/452722-5841992.pdf?src-supplier=Farnell; ComponentLink3URL: https://datasheet.ciiva.com/9446/mpt-9446252.pdf?src-supplier=Avnet; ComponentLink3Description: https://datasheet.ciiva.com/9446/mpt-9446252.pdf?src-supplier=Avnet; ComponentLink4URL: https://datasheet.ciiva.com/7997/452722-7997630.pdf?src-supplier=Element14; ComponentLink4Description: https://datasheet.ciiva.com/7997/452722-7997630.pdf?src-supplier=Element14
footprint *MPT-02-6.30-XX-X-V_MPT-02-6.30-XX-X-V(Primary)
pins: P1-1 1 (io), P1-2 2 (io), P1-3 3 (io), P1-4 4 (io), P1-5 5 (io), P1-6 6 (io), P2-1 7 (io), P2-2 8 (io), P2-3 9 (io), P2-4 10 (io), P2-5 11 (io), P2-6 12 (io)

## MPT-03-6.30-01-L-V
designator J?
5.00 Mm Powerstrip/30 A Dual Blade Terminal Strip / Tray Rohs Compliant: Yes; Manufacturer 1: Samtec; Manufacturer Part Number 1: MPT-03-6.30-01-L-V; Number of Positions: 3; Voltage Rating: 812V; Current Rating: 30A; Supplier 1: Digi-Key; Stock 1: 1061; Pricing 1: 1=5.03000, 99=4.22101, 198=4.02000, 594=3.41700, 1089=2.91450 (USD); RoHS: No; Mount: Through Hole; Color: Black; Contact Material: Copper Alloy; Contact Plating: Gold; Insulation Material: Polymer; Min Operating Temperature: -55°C; Max Operating Temperature: 125°C; Fastening Type: Ramp; Packaging: Tray; Number of Rows: 1; Termination: Solder; ComponentLink1URL: http://suddendocs.samtec.com/prints/mpt-xx-6.30-xx-x-v-xx-footprint.pdf?src-supplier=Digi-Key; ComponentLink1Description: http://suddendocs.samtec.com/prints/mpt-xx-6.30-xx-x-v-xx-footprint.pdf?src-supplier=Digi-Key
footprint *MPT-03-6.30-XX-X-V_MPT-02-6.30-XX-X-V(Primary)
pins: P1-1 1 (io), P1-2 2 (io), P1-3 3 (io), P1-4 4 (io), P1-5 5 (io), P1-6 6 (io), P2-1 7 (io), P2-2 8 (io), P2-3 9 (io), P2-4 10 (io), P2-5 11 (io), P2-6 12 (io), P3-1 13 (io), P3-2 14 (io), P3-3 15 (io), P3-4 16 (io), P3-5 17 (io), P3-6 18 (io)

## MPT-04-01-01-L-RA-SD
designator J?
SAMTEC - MPT-04-01-01-L-RA-SD - HEADER, 4WAY, POWER, R/A; Current Rating: 34.8A; Voltage Rating: 848V; Number of Contacts: 4; Number of Ports: 1; Max Voltage Rating (AC): 600V; Gender: Male; Pitch: 5mm; Supplier 1: Digi-Key; Manufacturer 1: Samtec; Manufacturer Part Number 1: MPT-04-01-01-L-RA-SD; Stock 1: 186; Pricing 1: 1=5.98000, 48=5.25792, 144=4.78000, 528=4.06299, 1008=3.46550 (USD); RoHS: Yes; Mount: Through Hole; Contact Plating: Gold; Contact Material: Copper Alloy,Copper; Number of Terminals: 32; Housing Material: Polymer; Min Operating Temperature: -55°C; Max Operating Temperature: 125°C; Number of Rows: 1; Packaging: Bulk; Termination: Solder; Orientation: Right Angle; Length: 31.36mm; Lead Pitch: 5mm; Depth: 14.81mm; Radiation Hardening: No; REACH SVHC: No SVHC; ComponentLink1URL: https://datasheet.ciiva.com/7997/452746-7997632.pdf?src-supplier=Element14; ComponentLink1Description: https://datasheet.ciiva.com/7997/452746-7997632.pdf?src-supplier=Element14; ComponentLink2URL: https://datasheet.ciiva.com/25617/0900766b81157edd-25617154.pdf?src-supplier=RSComponents; ComponentLink2Description: https://datasheet.ciiva.com/25617/0900766b81157edd-25617154.pdf?src-supplier=RSComponents; ComponentLink3URL: https://datasheet.ciiva.com/9446/mps-ra-9446008.pdf?src-supplier=Avnet; ComponentLink3Description: https://datasheet.ciiva.com/9446/mps-ra-9446008.pdf?src-supplier=Avnet
footprint *MPT-04-01-XX-X-RA-SD
pins: P1-1 1 (io), P1-2 2 (io), P1-3 3 (io), P1-4 4 (io), P1-5 5 (io), P1-6 6 (io), P2-1 7 (io), P2-2 8 (io), P2-3 9 (io), P2-4 10 (io), P2-5 11 (io), P2-6 12 (io), P3-1 13 (io), P3-2 14 (io), P3-3 15 (io), P3-4 16 (io), P3-5 17 (io), P3-6 18 (io), P4-1 19 (io), P4-2 20 (io), P4-3 21 (io), P4-4 22 (io), P4-5 23 (io), P4-6 24 (io)

## MPT-06-01-01-L-RA-SD
designator J?
Conn Mini-Power Terminal Strip HDR 6 POS Solder RA Thru-Hole 36 Terminal 1 Port; Manufacturer 1: Samtec; Number of Contacts: 6; Voltage Rating: 848V; Number of Ports: 1; Max Voltage Rating (AC): 600V; Gender: Male; Pitch: 5mm; Supplier 1: Digi-Key; Manufacturer Part Number 1: MPT-06-01-01-L-RA-SD; Stock 1: 373; Pricing 1: 1=7.27000, 48=6.36292, 144=5.75701, 528=4.84799, 1008=4.24200 (USD); RoHS: Yes; Mount: Through Hole; Contact Material: Copper Alloy,Copper; Contact Plating: Gold; Number of Terminals: 36; Housing Material: Polymer; Min Operating Temperature: -55°C; Max Operating Temperature: 125°C; Termination: Solder; Orientation: Right Angle; Packaging: Bulk; Number of Rows: 1; Lead Pitch: 5mm; Depth: 14.81mm; Radiation Hardening: No; REACH SVHC: No SVHC; ComponentLink1URL: https://datasheet.ciiva.com/25617/0900766b81157edd-25617181.pdf?src-supplier=RSComponents; ComponentLink1Description: https://datasheet.ciiva.com/25617/0900766b81157edd-25617181.pdf?src-supplier=RSComponents; ComponentLink2URL: https://datasheet.ciiva.com/16677/mps-ra-16677806.pdf?src-supplier=Avnet+Europe; ComponentLink2Description: https://datasheet.ciiva.com/16677/mps-ra-16677806.pdf?src-supplier=Avnet+Europe
footprint *MPT-06-01-XX-X-RA-SD; pin to pad P1-1>1 P1-2>2 P1-3>3 P1-4>4 P1-5>5 P1-6>6 P2-1>7 P2-2>8 P2-3>9 P2-4>10 P2-5>11 P2-6>12 P3-1>13 P3-2>14 P3-3>15 P3-4>16 P3-5>17 P3-6>18 P4-1>19 P4-2>20 P4-3>21 P4-4>22 P4-5>23 P4-6>24 P5-1>25 P5-2>26 P5-3>27 P5-4>28 P5-5>29 P5-6>30 P6-1>31 P6-2>32 P6-3>33 P6-4>34 P6-5>35 P6-6>36
pins: P1-1 1 (io), P1-2 2 (io), P1-3 3 (io), P1-4 4 (io), P1-5 5 (io), P1-6 6 (io), P2-1 7 (io), P2-2 8 (io), P2-3 9 (io), P2-4 10 (io), P2-5 11 (io), P2-6 12 (io), P3-1 13 (io), P3-2 14 (io), P3-3 15 (io), P3-4 16 (io), P3-5 17 (io), P3-6 18 (io), P4-1 19 (io), P4-2 20 (io), P4-3 21 (io), P4-4 22 (io), P4-5 23 (io), P4-6 24 (io), P5-1 25 (io), P5-2 26 (io), P5-3 27 (io), P5-4 28 (io), P5-5 29 (io), P5-6 30 (io), P6-1 31 (io), P6-2 32 (io), P6-3 33 (io), P6-4 34 (io), P6-5 35 (io), P6-6 36 (io)

## NT3H2211W0FT1X
designator U?
RFID Transponder IC 13.56MHz ISO 14443 I²C 3.3V 8-SOIC (0.154", 3.90mm Width); Manufacturer: NXP Semiconductors; Manufacturer Part Number: NT3H2211W0FT1X; Interface: I2C; Supplier 1: Digi-Key; Stock 1: 2009; Pricing 1: 1=1.18, 10=1.049, 25=0.9472, 100=0.8288, 250=0.72736, 500=0.64278 (USD); Case/Package: SOIC; Number of Pins: 8; Min Operating Temperature: -40°C; Max Operating Temperature: 105°C; Packaging: Tape and Reel; Frequency: 13.56MHz
footprint SOP254P1040X485-8N (SOP, 8-Leads, Body 9.15x6.62mm, Pitch 2.54mm, IPC Medium Density)
pins: 1 LA (in), 2 VSS (power), 3 SCL (in), 4 FD (in), 5 SDA (in), 6 VCC (power), 7 VOUT (power), 8 LB (in)

## PMEG6010CEH,115
designator *
NEXPERIA - PMEG6010CEH,115 - DIODE, SCHOTTKY, 1A, 60V, SOD-123F; Supplier 1: Digi-Key; Manufacturer 1: Nexperia; Manufacturer Part Number 1: PMEG6010CEH,115; Stock 1: 154416; Pricing 1: 1=0.46000, 10=0.34400, 100=0.21410, 500=0.14650, 1000=0.11269 (USD); RoHS: No; ComponentLink1URL: https://www.mouser.com/ds/2/302/PMEG6010CEH_PMEG6010CEJ-102368.pdf?src-supplier=Mouser; ComponentLink1Description: https://www.mouser.com/ds/2/302/PMEG6010CEH_PMEG6010CEJ-102368.pdf?src-supplier=Mouser; ComponentLink2URL: http://www.farnell.com/datasheets/109684.pdf?src-supplier=Farnell; ComponentLink2Description: http://www.farnell.com/datasheets/109684.pdf?src-supplier=Farnell; ComponentLink3URL: https://assets.nexperia.com/documents/data-sheet/PMEG6010CEH_PMEG6010CEJ.pdf?src-supplier=Digi-Key; ComponentLink3Description: https://assets.nexperia.com/documents/data-sheet/PMEG6010CEH_PMEG6010CEJ.pdf?src-supplier=Digi-Key
footprint SODFL350X120-2N (SODFL, 2-Leads, Body 1.60x3.50mm, IPC Medium Density)
pins: 1 K, 2 A

## RC0603FR-072K2L
designator R?, comment 2.2K
RES SMD 2.2K OHM 1% 1/10W 0603; Manufacturer: Yageo; Manufacturer Part Number: RC0603FR-072K2L; Resistance: 2.2kR; Temperature Coefficient: 100ppm/°C; Power Rating: 100mW; Voltage Rating: 50V; Supplier 1: Digi-Key; RoHS: Yes; Stock 1: 13522850; Pricing 1: 1 = 0.100000, 10 = 0.024000, 100 = 0.009700, 1000 = 0.004370, 2500 = 0.003790 (USD); Case/Package: 0603; Case Code (Imperial): 0603; Case Code (Metric): 1608; Min Operating Temperature: -55°C; Max Operating Temperature: 155°C; Tolerance: 1%; Packaging: Tape and Reel; Composition: Thick Film; Package Quantity: 1; Termination: SMD/SMT; Number of Terminations: 2; Military Standard: Not; Max Power Dissipation: 100mW; Features: Moisture Resistant; Length: 1.6mm; Height: 0.022inch; Width: 0.031inch; Depth: 0.8mm; REACH SVHC: No SVHC; Lead Free: Lead Free; ComponentLink1URL: http://www.farnell.com/datasheets/1868787.pdf; ComponentLink1Description: http://www.farnell.com/datasheets/1868787.pdf; ComponentLink2URL: http://www.yageo.com/documents/recent/PYu-RC_Group_51_RoHS_L_10.pdf; ComponentLink2Description: http://www.yageo.com/documents/recent/PYu-RC_Group_51_RoHS_L_10.pdf; ComponentLink3URL: http://www.farnell.com/datasheets/2167052.pdf; ComponentLink3Description: http://www.farnell.com/datasheets/2167052.pdf; ComponentLink4URL: http://www.yageo.com/documents/recent/PYu-RC_Group_51_RoHS_L_9.pdf; ComponentLink4Description: http://www.yageo.com/documents/recent/PYu-RC_Group_51_RoHS_L_9.pdf; ComponentLink5URL: http://www.farnell.com/datasheets/443971.pdf; ComponentLink5Description: http://www.farnell.com/datasheets/443971.pdf
footprint CAPC1608X05L (Chip Capacitor, 2-Leads, Body 1.60x0.80mm, IPC High Density)
pins: 1, 2

## RC0603FR-078K45L
designator R?, comment 8.45k
RES SMD 8.45K OHM 1% 1/10W 0603; Manufacturer 1: Yageo; Manufacturer Part Number 1: RC0603FR-078K45L; Resistance: 8.45kR; Power Rating: 100mW; Voltage Rating: 50V; Temperature Coefficient: 100ppm/°C; Supplier 1: Digi-Key; Stock 1: 1203753; Pricing 1: 1=0.10000, 10=0.02400, 100=0.00970, 1000=0.00437, 2500=0.00379 (USD); RoHS: Yes; Case/Package: Molded; Case Code (Imperial): 0603; Case Code (Metric): 1608; Min Operating Temperature: -55°C; Max Operating Temperature: 155°C; Tolerance: 1%; Packaging: Tape and Reel; Termination: SMD/SMT; Military Standard: Not; Composition: Thick Film; Voltage Rating (DC): 50V; Length: 1.6mm; Depth: 0.8mm; Lead Free: Lead Free; ComponentLink1URL: http://www.mouser.com/ds/2/447/RC0603-272842.pdf?src-supplier=Mouser; ComponentLink1Description: http://www.mouser.com/ds/2/447/RC0603-272842.pdf?src-supplier=Mouser; ComponentLink2URL: http://components.arrow.com/part/dataview/0323_03543311?src-supplier=Arrow+Europe; ComponentLink2Description: http://components.arrow.com/part/dataview/0323_03543311?src-supplier=Arrow+Europe; ComponentLink3URL: https://www.verical.com/server-webapp/html/getDatasheet?partID=329317&src-supplier=Verical; ComponentLink3Description: https://www.verical.com/server-webapp/html/getDatasheet?partID=329317&src-supplier=Verical; ComponentLink4URL: http://www.yageo.com/documents/recent/PYu-RC_Group_51_RoHS_L_9.pdf?src-supplier=Digi-Key; ComponentLink4Description: http://www.yageo.com/documents/recent/PYu-RC_Group_51_RoHS_L_9.pdf?src-supplier=Digi-Key; ComponentLink5URL: http://www.yageo.com/documents/recent/PYu-RC0603_51_RoHS_L_7.pdf?src-supplier=Future+Electronics; ComponentLink5Description: http://www.yageo.com/documents/recent/PYu-RC0603_51_RoHS_L_7.pdf?src-supplier=Future+Electronics
footprint CAPC1608X05L (Chip Capacitor, 2-Leads, Body 1.60x0.80mm, IPC High Density)
pins: 1, 2

## RC0603FR-07536KL
designator R?, comment 536k
RES SMD 536K OHM 1% 1/10W 0603; Manufacturer 1: Yageo; Manufacturer Part Number 1: RC0603FR-07536KL; Resistance: 536kR; Temperature Coefficient: 100ppm/°C; Power Rating: 100mW; Voltage Rating: 50V; Supplier 1: Digi-Key; Stock 1: 45136; Pricing 1: 1=0.10000, 10=0.02400, 100=0.00970, 1000=0.00437, 2500=0.00379 (USD); RoHS: Yes; Case/Package: 0603; Contact Plating: Tin,Matte; Case Code (Imperial): 0603; Case Code (Metric): 1608; Min Operating Temperature: -55°C; Max Operating Temperature: 155°C; Tolerance: 1%; Composition: Thick Film; Packaging: Tape and Reel; Termination: SMD/SMT; Voltage Rating (DC): 50V; Length: 1.6mm; Height: 0.45mm; Width: 0.8mm; Lead Free: Lead Free; ComponentLink1URL: https://datasheet.ciiva.com/8885/pyu-rc0603-51-rohs-l-4-8885383.pdf?src-supplier=Avnet; ComponentLink1Description: https://datasheet.ciiva.com/8885/pyu-rc0603-51-rohs-l-4-8885383.pdf?src-supplier=Avnet; ComponentLink2URL: https://datasheet.ciiva.com/12558/rc0603-272842-12558314.pdf?src-supplier=Mouser; ComponentLink2Description: https://datasheet.ciiva.com/12558/rc0603-272842-12558314.pdf?src-supplier=Mouser; ComponentLink3URL: https://datasheet.ciiva.com/28389/pyu-rc0603-51-rohs-l-4-28389818.pdf?src-supplier=Avnet+Europe; ComponentLink3Description: https://datasheet.ciiva.com/28389/pyu-rc0603-51-rohs-l-4-28389818.pdf?src-supplier=Avnet+Europe
footprint CAPC1608X05L (Chip Capacitor, 2-Leads, Body 1.60x0.80mm, IPC High Density)
pins: 1, 2

## RC0603JR-074K7L
designator R?, comment 4.7K
RES SMD 4.7K OHM 5% 1/10W 0603; Manufacturer: Yageo; Manufacturer Part Number: RC0603JR-074K7L; Resistance: 4.7kR; Temperature Coefficient: 100ppm/°C; Voltage Rating (DC): 50V; Power Rating: 100mW; Supplier 1: Digi-Key; RoHS: Yes; Stock 1: 20071258; Pricing 1: 1 = 0.10000, 10 = 0.02000, 100 = 0.00810, 1000 = 0.00362, 2500 = 0.00314 (USD); Case/Package: 0603; Number of Pins: 2; Case Code (Imperial): 0603; Case Code (Metric): 1608; Min Operating Temperature: -55°C; Max Operating Temperature: 155°C; Tolerance: 5%; Composition: Thick Film; Packaging: Tape and Reel; Voltage Rating: 50V; Termination: SMD/SMT; Military Standard: Not; Length: 1.6mm; Width: 0.8mm; Depth: 0.8mm; REACH SVHC: No SVHC; Lead Free: Lead Free; ComponentLink1URL: http://www.farnell.com/datasheets/443971.pdf; ComponentLink1Description: http://www.farnell.com/datasheets/443971.pdf
footprint CAPC1608X05L (Chip Capacitor, 2-Leads, Body 1.60x0.80mm, IPC High Density)
pins: 1, 2

## RC0603JR-0743RL
designator R?, comment 43
RES SMD 43 OHM 5% 1/10W 0603; Manufacturer: Yageo; Manufacturer Part Number: RC0603JR-0743RL; Resistance: 43R; Temperature Coefficient: 100ppm/°C; Power Rating: 100mW; Voltage Rating: 50V; Supplier 1: Digi-Key; Stock 1: 5240; Pricing 1: 1=0.1, 10=0.022, 100=0.0088, 1000=0.00396, 2500=0.00344 (USD); Case/Package: 0603; Contact Plating: Matte,Tin; Case Code (Metric): 1608; Case Code (Imperial): 0603; Min Operating Temperature: -55°C; Max Operating Temperature: 155°C; Tolerance: 5%; Composition: Thick Film; Package Quantity: 1; Packaging: Tape and Reel; Number of Terminations: 2; Termination: SMD/SMT; Military Standard: Not; Max Power Dissipation: 100mW; Voltage Rating (DC): 50V; Features: Moisture Resistant; Length: 1.6mm; Height: 0.022inch; Width: 0.031inch; Depth: 0.8mm; Radiation Hardening: No; Lead Free: Lead Free; ComponentLink1URL: http://www.yageo.com/documents/recent/PYu-RC_Group_51_RoHS_L_9.pdf; ComponentLink1Description: http://www.yageo.com/documents/recent/PYu-RC_Group_51_RoHS_L_9.pdf; ComponentLink2URL: http://www.yageo.com.tw/exep/pages/download/literatures/PYu-R_INT-thick_7.pdf; ComponentLink2Description: http://www.yageo.com.tw/exep/pages/download/literatures/PYu-R_INT-thick_7.pdf; ComponentLink3URL: http://www.mouser.com/ds/2/447/RC0603-272842.pdf; ComponentLink3Description: http://www.mouser.com/ds/2/447/RC0603-272842.pdf
footprint CAPC1608X05L (Chip Capacitor, 2-Leads, Body 1.60x0.80mm, IPC High Density)
simulation model Model Name (Model Description)
signal-integrity model Model Name (Model Description)
pins: 1, 2

## RC0603JR-07470RL
designator R?, comment 470
RES SMD 470 OHM 5% 1/10W 0603; Manufacturer: Yageo; Manufacturer Part Number: RC0603JR-07470RL; Resistance: 470R; Temperature Coefficient: 100ppm/°C; Voltage Rating (DC): 50V; Power Rating: 100mW; Supplier 1: Digi-Key; RoHS: Yes; Stock 1: 12870080; Pricing 1: 1 = 0.10000, 10 = 0.02000, 100 = 0.00810, 1000 = 0.00362, 2500 = 0.00314 (USD); Case/Package: 0603; Number of Pins: 2; Case Code (Imperial): 0603; Case Code (Metric): 1608; Min Operating Temperature: -55°C; Max Operating Temperature: 155°C; Tolerance: 5%; Composition: Thick Film; Packaging: Tape and Reel; Voltage Rating: 50V; Package Quantity: 1; Termination: SMD/SMT; Number of Terminations: 2; Military Standard: Not; Max Power Dissipation: 100mW; Features: Moisture Resistant; Length: 0.063inch; Height: 0.022inch; Width: 0.031inch; Depth: 0.8mm; REACH SVHC: No SVHC; Lead Free: Lead Free; ComponentLink1URL: http://www.yageo.com/documents/recent/PYu-RC_Group_51_RoHS_L_10.pdf; ComponentLink1Description: http://www.yageo.com/documents/recent/PYu-RC_Group_51_RoHS_L_10.pdf; ComponentLink2URL: http://www.farnell.com/datasheets/443971.pdf; ComponentLink2Description: http://www.farnell.com/datasheets/443971.pdf
footprint CAPC1608X05L (Chip Capacitor, 2-Leads, Body 1.60x0.80mm, IPC High Density)
pins: 1, 2